# Altium footprint library SparkFun-Capacitors.PCBLIB: 33 footprints (part 3 of 3)
Each footprint in its own frame and in the unit in brackets; x right, y up, seen from the top. Pads: shape width x height; smd on the part's side, far side on the other; paste and mask are expansions set on the pad; w line width, h text height; cw(c..) or ccw(c..) is an arc to the next point about the centre after c.
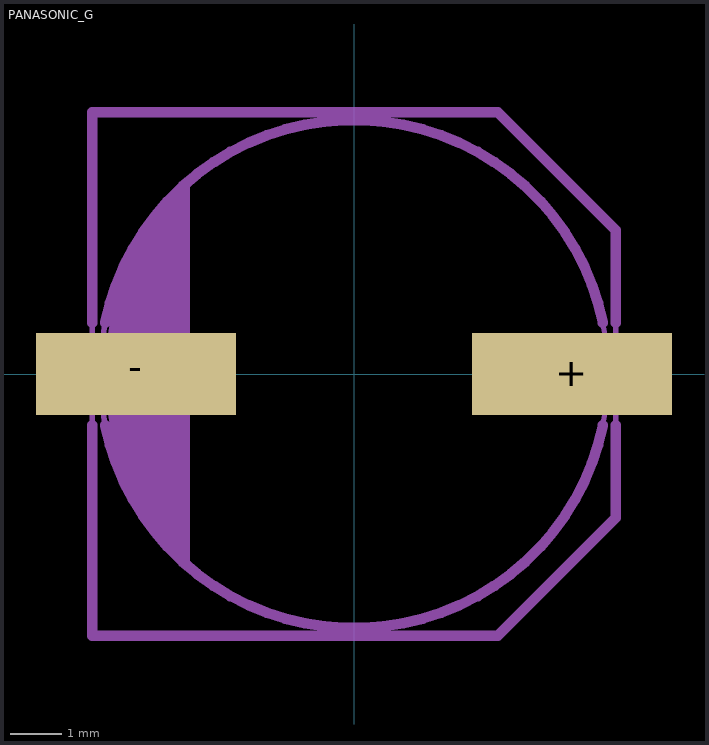
[diagram p2: the footprint, top view; thin cyan lines are the x and y axes]

## PANASONIC_G [mil]
pads (2):
  rect 153.54x62.99 smd: +(167.32,0) -(-167.32,0)
tDocu:
  circle w4: c0,0 r194.88
  region: -230.32,-17.72 -230.32,17.72 -192.91,17.72 -192.91,-17.72
  region: 192.91,-17.72 192.91,17.72 230.32,17.72 230.32,-17.72
  region: -129.92,141.73 -159.45,108.27 -183.07,61.02 -190.94,17.72 -190.94,-17.72 -183.07,-61.02 -159.45,-108.27 -129.92,-141.73 -129.92,139.76
  lines w4: -127.95,-143.7 -127.95,145.67 ; -200.79,-200.79 110.24,-200.79 200.79,-110.24 200.79,110.24 110.24,200.79 -200.79,200.79 -200.79,-200.79
tPlace:
  lines w8: -200.79,-39.37 -200.79,-200.79 110.24,-200.79 200.79,-110.24 200.79,-39.37 ; -200.79,39.37 -200.79,200.79 110.24,200.79 200.79,110.24 200.79,39.37 ; -190.94,-39.37 ccw(c0,0) 190.94,-39.37 ; -190.94,39.37 cw(c0,0) 190.94,39.37